# EAGLE library part DG2002DL-T1 (library Vishay_By_element14_Batch_1)
Low-Voltage Single SPDT Analog Switch
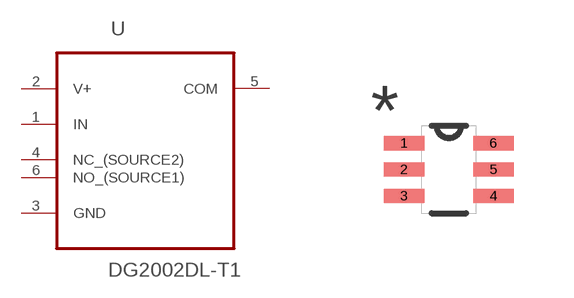
[diagram p0: symbol with the pads of SOT65P210X110-6N; footprint SOT65P210X110-6N]

Designator prefix U

## DG2002DL-T1 (MPN: DG2002DL-T1; OC_FARNELL: -; OC_NEWARK: 45C9678; PACKAGE: SC-70-6; SUPPLIER: VISHAY SILICONIX)  [SOT65P210X110-6N]
1  IN  in
2  V+  pwr
3  GND  pas
4  NC_(SOURCE2)  in
5  COM  out
6  NO_(SOURCE1)  in

## Footprint SOT65P210X110-6N (pad centres in mm)
smd 1.016 x 0.356: 1 -1.118,0.66; 2 -1.118,0; 3 -1.118,-0.66; 4 1.118,-0.66; 5 1.118,0; 6 1.118,0.66